# Altium footprint library CN_IDC10_918510X904.PcbLib: 1 footprints
Each footprint in its own frame and in the unit in brackets; x right, y up, seen from the top. Pads: shape width x height; smd on the part's side, far side on the other; paste and mask are expansions set on the pad; w line width, h text height; cw(c..) or ccw(c..) is an arc to the next point about the centre after c.
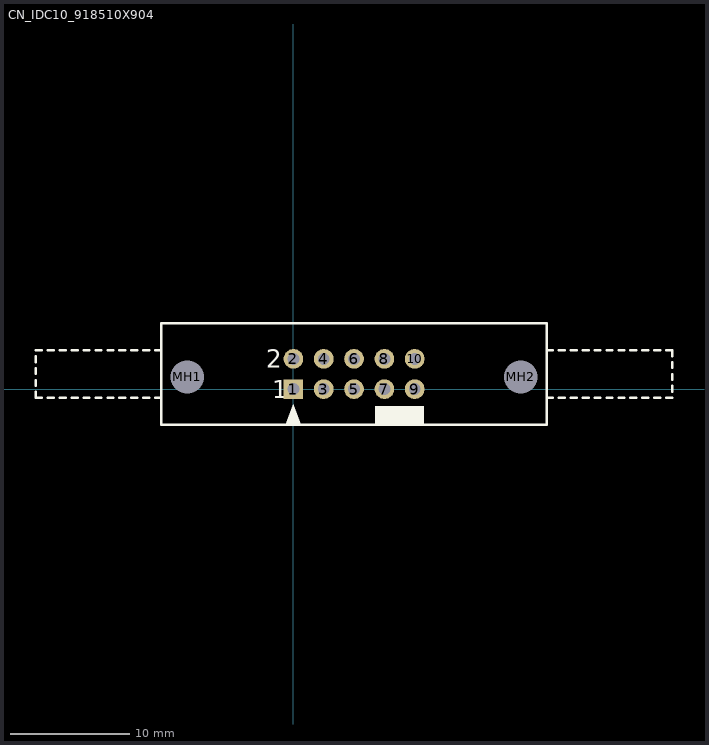
[diagram p0: the footprint, top view; thin cyan lines are the x and y axes]

## CN_IDC10_918510X904 [mm] "Connector; IDC, Thru-Hole; 10 Position; Vertical; Pitch 2.54 mm; Body 39.90 x 8.5 x 23.30 mm (LxWxH), Locking levers"
height 23.3
pads (12):
  rect 1.65x1.65 hole 1: 1(0,0)
  round 1.65 hole 1: 2(0,2.54) 3(2.54,0) 4(2.54,2.54) 5(5.08,0) 6(5.08,2.54) 7(7.62,0) 8(7.62,2.54) 9(10.16,0) 10(10.16,2.54)
  round 2.5 hole 2.8 unplated: MH1(-8.89,1.02) MH2(19.05,1.02)
Top Overlay:
  rectangle: 6.84,-2.98 10.94,-1.43
  region: 0,-1.27 0.635,-2.921 -0.635,-2.921
  lines w0.2: -21.57,-0.23 -21.56,-0.73 -21.07,-0.73 ; -21.56,0.27 -21.56,0.77 ; -21.56,1.27 -21.56,1.77 ; -21.56,2.27 -21.56,2.77 ; -21.56,3.27 -21.07,3.27 ; -20.57,-0.73 -20.07,-0.73 ; -20.57,3.27 -20.07,3.27 ; -19.57,-0.73 -19.07,-0.73 ; -19.57,3.27 -19.07,3.27 ; -18.57,-0.73 -18.07,-0.73 ; -18.57,3.27 -18.07,3.27 ; -17.57,-0.73 -17.07,-0.73 ; -17.57,3.27 -17.07,3.27 ; -16.57,-0.73 -16.07,-0.73 ; -16.57,3.27 -16.07,3.27 ; -15.57,-0.73 -15.07,-0.73 ; -15.57,3.27 -15.07,3.27 ; -14.57,-0.73 -14.07,-0.73 ; -14.57,3.27 -14.07,3.27 ; -13.57,-0.73 -13.07,-0.73 ; -13.57,3.27 -13.07,3.27 ; -12.57,-0.73 -12.07,-0.73 ; -12.57,3.27 -12.07,3.27 ; -11.57,-0.73 -11.06,-0.73 ; -11.57,3.27 -11.06,3.27 ; 21.22,-0.73 21.72,-0.73 ; 21.22,3.27 21.72,3.27 ; 22.22,-0.73 22.72,-0.73 ; 22.22,3.27 22.72,3.27 ; 23.22,-0.73 23.72,-0.73 ; 23.22,3.27 23.72,3.27 ; 24.22,-0.73 24.72,-0.73 ; 24.22,3.27 24.72,3.27 ; 25.22,-0.73 25.72,-0.73 ; 25.22,3.27 25.72,3.27 ; 26.22,-0.73 26.72,-0.73 ; 26.22,3.27 26.72,3.27 ; 27.22,-0.73 27.72,-0.73 ; 27.22,3.27 27.72,3.27 ; 28.22,-0.73 28.72,-0.73 ; 28.22,3.27 28.72,3.27 ; 29.22,-0.73 29.72,-0.73 ; 29.22,3.27 29.72,3.27 ; 30.22,-0.73 30.72,-0.73 ; 30.22,3.27 30.72,3.27 ; 31.22,-0.73 31.72,-0.73 ; 31.22,3.27 31.72,3.27 31.72,2.77 ; 31.72,-0.23 31.72,0.27 ; 31.72,0.77 31.72,1.27 ; 31.72,1.77 31.72,2.27 ; -11.06,-2.98 -11.06,5.52 21.22,5.52 21.22,-2.98 -11.06,-2.98
  text "2" at -2.28,1.79 h1.5
  text "1" at -1.78,-0.75 h1.5
3D body: height 25.75, standoff -3.2, extent -11.07,-2.98 21.23,5.52